# EAGLE library part MLW06G/T821106A1S (library CON-pinHeader-AON)
konektor 3x2 primy s miskou, GME MLW06G, TME Farnel RS T821106A1S 100CEU Amphenol, FCI 75869-131LF, 75869-331LF , Farnel 3M 30306-6002HB, Farnel RS Wurth 61200621621, Harting 09185067324
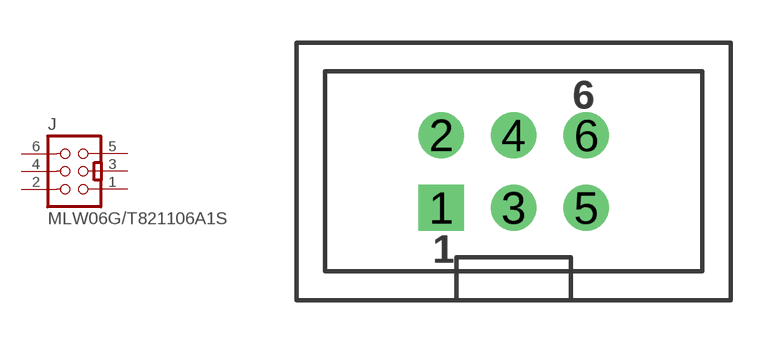
[diagram p8: symbol with the pads of MLW06-3X2-PRIMY; footprint MLW06-3X2-PRIMY]

Designator prefix J

## MLW06G/T821106A1S  [MLW06-3X2-PRIMY]
1  1  pas
2  2  pas
3  3  pas
4  4  pas
5  5  pas
6  6  pas

## Footprint MLW06-3X2-PRIMY (pad centres in mm)
drill 1 pad 1.6 square: 1 -2.54,-1.27
drill 1 pad 1.6: 2 -2.54,1.27; 3 0,-1.27; 4 0,1.27; 5 2.54,-1.27; 6 2.54,1.27